# EAGLE library part CHRONODOT-OUTLINE (library miller)
Chronodot outline This is the footprint and outline for a Chronodot to allow easy installation on your circuit board. It assumes you are purchasing an assembled Chronodot and simply soldering it on to your board.
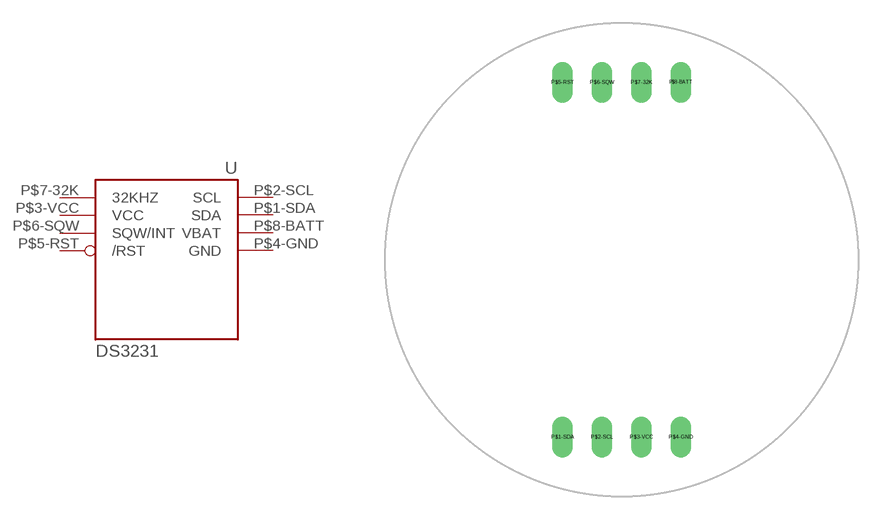
[diagram p16: symbol with the pads of CHRONODOT-OUTLINE; footprint CHRONODOT-OUTLINE]

Designator prefix -

## CHRONODOT-OUTLINE  [CHRONODOT-OUTLINE]
P$1-SDA  SDA
P$2-SCL  SCL
P$3-VCC  VCC  pwr
P$4-GND  GND  pwr
P$5-RST  /RST  pas
P$6-SQW  SQW/INT  out
P$7-32K  32KHZ  out
P$8-BATT  VBAT  pwr

## Footprint CHRONODOT-OUTLINE (pad centres in mm)
Chronodot outline and hole pattern
drill 0.8 long: P$1-SDA -3.81,-11.43; P$2-SCL -1.27,-11.43; P$3-VCC 1.27,-11.43; P$4-GND 3.81,-11.43; P$5-RST -3.81,11.43; P$6-SQW -1.27,11.43; P$7-32K 1.27,11.43; P$8-BATT 3.81,11.43